# EAGLE library part CONNECTOR_DB9 (library CAN-BUS-Shield-v1.2)
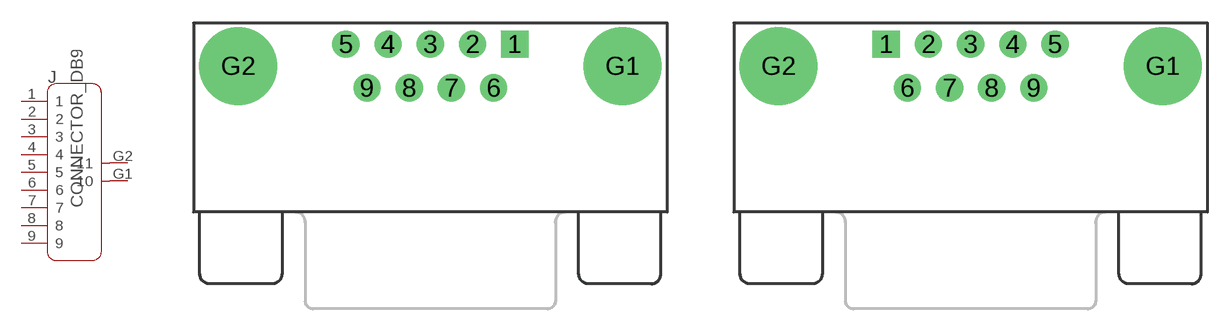
[diagram p0: symbol with the pads of CONNECTOR_DB9; footprints CONNECTOR_DB9, CONNECTOR_DB9-MEAL]

Designator prefix J

## CONNECTOR_DB9FEMAL  [CONNECTOR_DB9]
1  1
2  2
3  3
4  4
5  5
6  6
7  7
8  8
9  9
G1  10
G2  11

## CONNECTOR_DB9MEAL  [CONNECTOR_DB9-MEAL]
Pads as for CONNECTOR_DB9

## Footprint CONNECTOR_DB9 (pad centres in mm)
SUB-D
drill 1.143 pad 1.778 square: 1 5.486,1.422
drill 1.143 pad 1.778: 2 2.743,1.422; 3 0,1.422; 4 -2.743,1.422; 5 -5.486,1.422; 6 4.115,-1.422; 7 1.372,-1.422; 8 -1.372,-1.422; 9 -4.115,-1.422
drill 3.302 pad 5.08: G1 12.497,0; G2 -12.497,0

## Footprint CONNECTOR_DB9-MEAL (pad centres in mm)
drill 1.143 pad 1.778 square: 1 -5.486,1.422
drill 1.143 pad 1.778: 2 -2.743,1.422; 3 0,1.422; 4 2.743,1.422; 5 5.486,1.422; 6 -4.115,-1.422; 7 -1.372,-1.422; 8 1.372,-1.422; 9 4.115,-1.422
drill 3.302 pad 5.08: G1 12.497,0; G2 -12.497,0